# EAGLE library part HEADER_12PIN (library senseye)
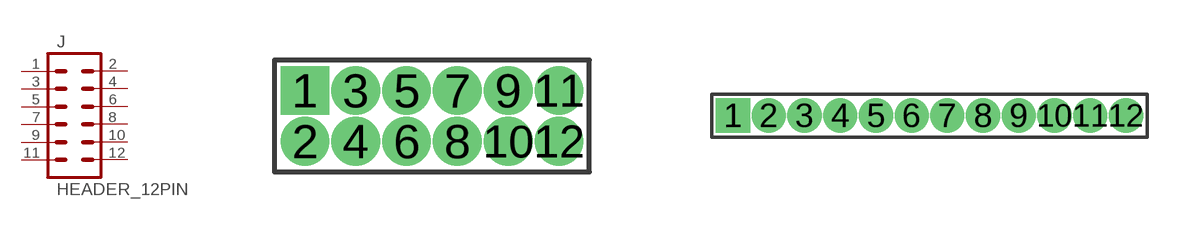
[diagram p7: symbol with the pads of HEADER2X6/0.05IN; footprints HEADER2X6/0.05IN, HEADER1X12/0.05IN]

Designator prefix J

## HEADER_12PIN2X6  [HEADER2X6/0.05IN]
1  1  pas
2  2  pas
3  3  pas
4  4  pas
5  5  pas
6  6  pas
7  7  pas
8  8  pas
9  9  pas
10  10  pas
11  11  pas
12  12  pas

## HEADER_12PIN1X12  [HEADER1X12/0.05IN]
1  1  pas
2  3  pas
3  5  pas
4  7  pas
5  9  pas
6  11  pas
7  2  pas
8  4  pas
9  6  pas
10  8  pas
11  10  pas
12  12  pas

## HEADER_12PIN2X6_NOSILK  [HEADER2X6/0.05IN_NO_SILK]
Pads as for HEADER2X6/0.05IN

## Footprint HEADER2X6/0.05IN (pad centres in mm)
drill 0.711 pad 1.016 square: 1 -3.175,0.635
drill 0.711 pad 1.016: 2 -3.175,-0.635; 3 -1.905,0.635; 4 -1.905,-0.635; 5 -0.635,0.635; 6 -0.635,-0.635; 7 0.635,0.635; 8 0.635,-0.635; 9 1.905,0.635; 10 1.905,-0.635; 11 3.175,0.635; 12 3.175,-0.635

## Footprint HEADER1X12/0.05IN (pad centres in mm)
drill 0.711 pad 1.016 square: 1 -7.62,0
drill 0.711 pad 1.016: 2 -6.35,0; 3 -5.08,0; 4 -3.81,0; 5 -2.54,0; 6 -1.27,0; 7 0,0; 8 1.27,0; 9 2.54,0; 10 3.81,0; 11 5.08,0; 12 6.35,0

## Footprint HEADER2X6/0.05IN_NO_SILK (pad centres in mm)
drill 0.711 pad 1.016 square: 1 -3.175,0.635
drill 0.711 pad 1.016: 2 -3.175,-0.635; 3 -1.905,0.635; 4 -1.905,-0.635; 5 -0.635,0.635; 6 -0.635,-0.635; 7 0.635,0.635; 8 0.635,-0.635; 9 1.905,0.635; 10 1.905,-0.635; 11 3.175,0.635; 12 3.175,-0.635